# Altium schematic symbol library Q_DTC144E.Schlib: 1 symbol
Pins are listed as number, name and electrical type; pins without a type are passive.

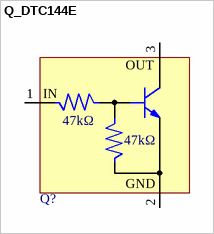
[diagram p0: symbol Q_DTC144E]

## Q_DTC144E
designator Q?
Transistor, NPN
pins: 1 IN, 2 GND, 3 OUT
text: 47kΩ